# Altium schematic symbol library PCAL6524EVJ.SchLib: 1 symbol
Pins are listed as number, name and electrical type; pins without a type are passive.

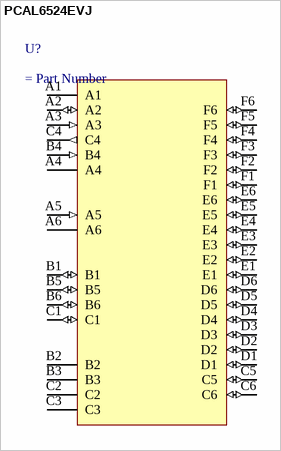
[diagram p0: symbol PCAL6524EVJ]

## PCAL6524EVJ
designator U?
= Description; Mfr_Name: NXP; Manufacturer_Part_Number: PCAL6524EVJ; Copyright: Copyright (C) 2021 Ultra Librarian. All rights reserved.; Digi-Key_Part_Number_1: 568-13621-1-ND; Digi-Key_Part_Number_2: 568-13621-2-ND; Digi-Key_Part_Number_3: 568-13621-6-ND; RefDes: RefDes; Type: DEV
pins: A1 (power), A2 (io), A3 (in), A4 (power), A5 (in), A6, B1 (io), B2, B3, B4 (in), B5 (io), B6 (io), C1 (io), C2, C3, C4 (out), C5 (io), C6 (io), D1 (io), D2 (io), D3 (io), D4 (io), D5 (io), D6 (io), E1 (io), E2 (io), E3 (io), E4 (io), E5 (io), E6 (io), F1 (io), F2 (io), F3 (io), F4 (io), F5 (io), F6 (io)